# Altium footprint library robotShield.PcbLib: 19 footprints (part 1 of 2)
Each footprint in its own frame and in the unit in brackets; x right, y up, seen from the top. Pads: shape width x height; smd on the part's side, far side on the other; paste and mask are expansions set on the pad; w line width, h text height; cw(c..) or ccw(c..) is an arc to the next point about the centre after c.
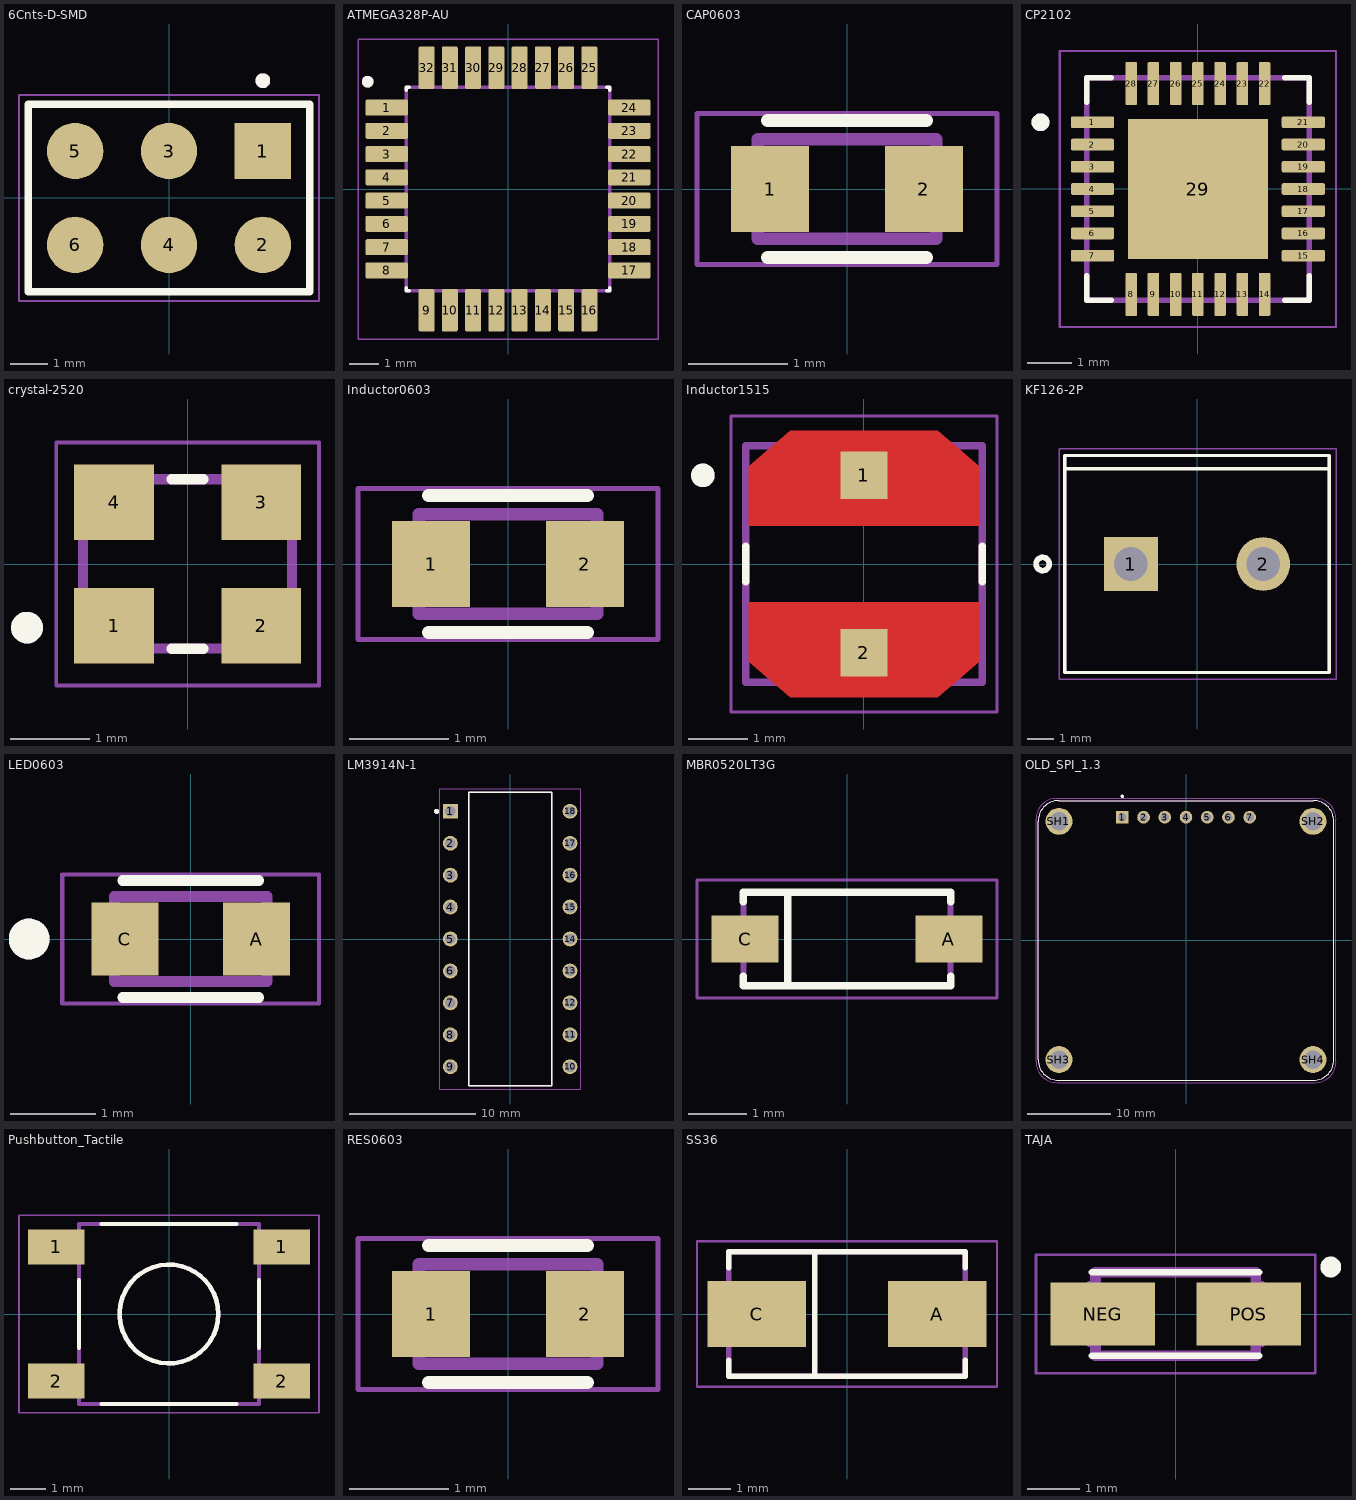
[diagram p0: the footprints below, top view; thin cyan lines are the x and y axes]

## 6Cnts-D-SMD [mil] "6Cnts-D-SMD"
pads (6):
  rect 60x60 smd: 1(100,50)
  round 60 smd: 2(100,-50) 3(0,50) 4(0,-50) 5(-100,50) 6(-100,-50)
Top Overlay:
  circle w7.87: c100,125 r3.94
  lines w7.87: -150,-100 150,-100 150,100 -150,100 -150,-100
Mechanical 13:
  circle w7.87: c100,125 r3.94
  lines w3.94: -150,-100 -150,100 150,100 150,-100 -150,-100
Mechanical 15:
  lines w1.97: -159.84,-109.84 -159.84,109.84 159.84,109.84 159.84,-109.84 -159.84,-109.84
3D body "6Cnts-D.step": height 416.22, standoff 1.26, extent -150,-98.43 150,98.43

## ATMEGA328P-AU [mm] "QFP80P900X900X120-32N"
height 1.2
pads (32):
  rrect25% 1.47x0.55 smd: 1(-4.17,2.8) 2(-4.17,2) 3(-4.17,1.2) 4(-4.17,0.4) 5(-4.17,-0.4) 6(-4.17,-1.2) 7(-4.17,-2) 8(-4.17,-2.8) 17(4.17,-2.8) 18(4.17,-2) 19(4.17,-1.2) 20(4.17,-0.4) 21(4.17,0.4) 22(4.17,1.2) 23(4.17,2) 24(4.17,2.8)
  rrect25% 0.55x1.47 smd: 9(-2.8,-4.17) 10(-2,-4.17) 11(-1.2,-4.17) 12(-0.4,-4.17) 13(0.4,-4.17) 14(1.2,-4.17) 15(2,-4.17) 16(2.8,-4.17) 25(2.8,4.17) 26(2,4.17) 27(1.2,4.17) 28(0.4,4.17) 29(-0.4,4.17) 30(-1.2,4.17) 31(-2,4.17) 32(-2.8,4.17)
Top Overlay:
  circle w0.2: c-4.824,3.689 r0.1
  lines w0.127: -3.5,-3.395 -3.5,-3.5 -3.395,-3.5 ; -3.5,3.395 -3.5,3.5 -3.395,3.5 ; 3.395,-3.5 3.5,-3.5 3.5,-3.395 ; 3.395,3.5 3.5,3.5 3.5,3.395
Mechanical 13:
  circle w0.2: c-4.824,3.689 r0.1
  lines w0.127: -3.5,-3.5 3.5,-3.5 3.5,3.5 -3.5,3.5 -3.5,-3.5
Mechanical 15:
  lines w0.05: -5.155,-5.155 5.155,-5.155 5.155,5.155 -5.155,5.155 -5.155,-5.155
3D body "step_temp.STEP": height 1.2, standoff 0, extent -4.5,-4.5 4.5,4.5

## CAP0603 [mil] "CAPC1608X50N"
pads (2):
  rect 31x34 smd: 1(-30.5,0) 2(30.5,0)
Top Overlay:
  lines w5: -31.5,-27.17 31.5,-27.17 ; -31.5,27.17 31.5,27.17
Mechanical 13:
  lines w5: -35.43,-19.69 35.43,-19.69 35.43,19.68 -35.43,19.68 -35.43,-19.69
Mechanical 15:
  lines w1.97: -59.45,-29.92 59.45,-29.92 59.45,29.92 -59.45,29.92 -59.45,-29.92
3D body "CAP0603.STEP": height 32.94, standoff 1.06, extent -31.5,-17.5 31.5,17.93

## CP2102 [mm] "QFN50P500X500X100-29N"
pads (29):
  rrect25% 0.97x0.26 smd: 1(-2.37,1.5) 2(-2.37,1) 3(-2.37,0.5) 4(-2.37,0) 5(-2.37,-0.5) 6(-2.37,-1) 7(-2.37,-1.5) 15(2.37,-1.5) 16(2.37,-1) 17(2.37,-0.5) 18(2.37,0) 19(2.37,0.5) 20(2.37,1) 21(2.37,1.5)
  rrect25% 0.26x0.97 smd: 8(-1.5,-2.37) 9(-1,-2.37) 10(-0.5,-2.37) 11(0,-2.37) 12(0.5,-2.37) 13(1,-2.37) 14(1.5,-2.37) 22(1.5,2.37) 23(1,2.37) 24(0.5,2.37) 25(0,2.37) 26(-0.5,2.37) 27(-1,2.37) 28(-1.5,2.37)
  rect 3.15x3.15 smd paste-0.575: 29(0,0)
Top Overlay:
  circle w0.2: c-3.54,1.5 r0.1
  lines w0.127: -2.5,-1.95 -2.5,-2.5 -1.95,-2.5 ; -2.5,1.95 -2.5,2.5 -1.95,2.5 ; 1.95,-2.5 2.5,-2.5 2.5,-1.95 ; 1.95,2.5 2.5,2.5 2.5,1.95
Mechanical 13:
  circle w0.2: c-3.54,1.5 r0.1
  lines w0.127: -2.5,-2.5 2.5,-2.5 2.5,2.5 -2.5,2.5 -2.5,-2.5
Mechanical 15:
  lines w0.05: -3.105,-3.105 3.105,-3.105 3.105,3.105 -3.105,3.105 -3.105,-3.105
3D body "CP2102.STEP": height 1, standoff 0, extent -2.5,-2.5 2.5,2.5

## crystal-2520 [mm] "crystal-2520"
pads (4):
  rect 1x0.95 smd: 1(-0.925,-0.775) 2(0.925,-0.775) 3(0.925,0.775) 4(-0.925,0.775)
Top Overlay:
  circle w0.2: c-2.019,-0.8 r0.1
  lines w0.127: -0.2,-1.065 0.2,-1.065 ; -0.2,1.065 0.2,1.065
Mechanical 13:
  circle w0.2: c-2.019,-0.8 r0.1
  lines w0.127: -1.312,-1.063 1.312,-1.063 1.312,1.065 -1.312,1.065 -1.312,-1.063
Mechanical 15:
  lines w0.05: -1.651,-1.524 1.651,-1.524 1.651,1.524 -1.651,1.524 -1.651,-1.524
3D body "QFN_2520_4pins.STEP": height 0.8, standoff 0, extent -1.251,-1 1.251,1

## Inductor0603 [mil] "InductorC1608X50N"
pads (2):
  rect 31x34 smd: 1(-30.5,0) 2(30.5,0)
Top Overlay:
  lines w5: -31.5,-27.17 31.5,-27.17 ; -31.5,27.17 31.5,27.17
Mechanical 13:
  lines w5: -35.43,-19.68 -35.43,19.69 35.43,19.69 35.43,-19.68 -35.43,-19.68
Mechanical 15:
  lines w1.97: -59.45,-29.92 -59.45,29.92 59.45,29.92 59.45,-29.92 -59.45,-29.92
3D body "Inductor0603.STEP": height 32.75, standoff 1.25, extent -31.5,-18.5 31.5,18.9

## Inductor1515 [mm] "SMD Inductor 4.7uH 1.57A 4mm x 4mm x 2.8mm"
height 2
pads (2):
  rect 0.8x0.8 smd paste-1 mask+0: 1(0,1.5) 2(0,-1.5)
Top Layer:
  region: 1.95,1.65 1.95,0.65 -1.95,0.65 -1.95,1.65 -1.25,2.25 1.25,2.25
  region: 1.95,-1.65 1.25,-2.25 -1.25,-2.25 -1.95,-1.65 -1.95,-0.65 1.95,-0.65
Top Overlay:
  circle w0.2: c-2.725,1.5 r0.1
  lines w0.127: -2,-0.3 -2,0.3 ; 2,-0.3 2,0.3
Top Paste:
  region: 1.95,1.65 1.95,0.65 -1.95,0.65 -1.95,1.65 -1.25,2.25 1.25,2.25
  region: 1.95,-1.65 1.25,-2.25 -1.25,-2.25 -1.95,-1.65 -1.95,-0.65 1.95,-0.65
Top Solder:
  region: 2.05,1.7 2.05,0.55 -2.05,0.55 -2.05,1.7 -1.3,2.35 1.3,2.35
  region: 2.05,-1.7 1.3,-2.35 -1.3,-2.35 -2.05,-1.7 -2.05,-0.55 2.05,-0.55
Mechanical 13:
  circle w0.2: c-2.725,1.5 r0.1
  lines w0.127: -2,-2 -2,2 2,2 2,-2 -2,-2
Mechanical 15:
  lines w0.05: -2.25,-2.5 -2.25,2.5 2.25,2.5 2.25,-2.5 -2.25,-2.5
3D body "step_temp.STEP": height 2.8, standoff 0, extent -2,-2 2,2

## KF126-2P [mil] "KF126-2P"
pads (2):
  rect 80x80 hole 50: 1(-98.43,0)
  round 80 hole 50: 2(98.43,0)
Top Overlay:
  circle w8: c-229.8,0 r9.84
  lines w5: -196.49,141.83 196.7,141.83 ; -196.85,-161.42 -196.85,161.42 196.85,161.42 196.85,-161.42 -196.85,-161.42
Mechanical 13:
  circle w8: c-229.8,0 r9.84
  lines w5: -196.85,-161.42 -196.85,161.42 196.85,161.42 196.85,-161.42 -196.85,-161.42
Mechanical 15:
  lines w1.97: -205,-171.26 206.69,-171.26 206.69,171.26 -205,171.26 -205,-171.26
3D body "KF126-2P.STEP": height 393.7, standoff -137.8, extent -220.47,-161.42 196.85,161.42

## LED0603 [mil] "LEDC1608X65N"
pads (2):
  rect 31x34 smd: A(30.5,0) C(-30.5,0)
Top Overlay:
  circle w9.45: c-74.8,0 r4.72
  lines w5: -31.5,-27.17 31.5,-27.17 ; -31.5,27.17 31.5,27.17
Mechanical 13:
  circle w9.45: c-74.8,0 r4.72
  lines w5: -35.43,-19.69 -35.43,19.68 35.43,19.68 35.43,-19.69 -35.43,-19.69
Mechanical 15:
  lines w1.97: -59.45,-29.92 -59.45,29.92 59.45,29.92 59.45,-29.92 -59.45,-29.92
3D body "LED0603_RED.step": height 35.43, standoff 0, extent -33.46,-17.72 33.46,17.72

## LM3914N-1 [mm] "DIP952W45P254L2336H533Q18"
height 5.334
pads (18):
  rect 1.18x1.18 / inner round 1.18 / far side rect 1.18x1.18 hole 0.83: 1(-4.763,10.16)
  round 1.18 hole 0.83: 2(-4.763,7.62) 3(-4.763,5.08) 4(-4.763,2.54) 5(-4.763,0) 6(-4.763,-2.54) 7(-4.763,-5.08) 8(-4.763,-7.62) 9(-4.763,-10.16) 10(4.763,-10.16) 11(4.763,-7.62) 12(4.763,-5.08) 13(4.763,-2.54) 14(4.763,0) 15(4.763,2.54) 16(4.763,5.08) 17(4.763,7.62) 18(4.763,10.16)
Top Overlay:
  circle w0.2: c-5.853,10.16 r0.1
  lines w0.127: -3.302,-11.684 3.302,-11.684 3.302,11.684 -3.302,11.684 -3.302,-11.684
Mechanical 13:
  circle w0.2: c-5.853,10.16 r0.1
  lines w0.127: -3.302,-11.684 -3.302,11.684 3.302,11.684 3.302,-11.684 -3.302,-11.684
Mechanical 15:
  lines w0.05: -5.602,-11.934 -5.602,11.934 5.602,11.934 5.602,-11.934 -5.602,-11.934
3D body "step_temp.STEP": height 5.33, standoff -3.43, extent -4.888,-11.43 4.888,11.43

## MBR0520LT3G [mm] "SOD3716X135N"
pads (2):
  rect 1.15x0.8 smd: A(1.75,0) C(-1.75,0)
Top Overlay:
  lines w0.127: -1.778,-0.635 -1.778,-0.8 1.778,-0.8 1.778,-0.635 ; -1.778,0.635 -1.778,0.8 1.778,0.8 1.778,0.635 ; -1.016,-0.762 -1.016,0.762
Mechanical 13:
  lines w0.1: -1.778,-0.8 -1.778,0.8 1.778,0.8 1.778,-0.8 -1.778,-0.8
Mechanical 15:
  lines w0.05: -2.575,-1.016 2.575,-1.016 2.575,1.016 -2.575,1.016 -2.575,-1.016
3D body "step_temp.STEP": height 1.35, standoff 0, extent -1.84,-0.8 1.84,0.8

## OLD_SPI_1.3 [mm] "LCD_AOM12864A0-1.3BW-ANO"
height 5
pads (11):
  rect 1.508x1.508 / inner round 1.508 / far side rect 1.508x1.508 hole 1 mask+0.102: 1(-7.62,14.75)
  round 1.508 hole 1 mask+0.102: 2(-5.08,14.75) 3(-2.54,14.75) 4(0,14.75) 5(2.54,14.75) 6(5.08,14.75) 7(7.62,14.75)
  round 3.216 hole 2.2 mask+0.102: SH1(-15.2,14.25) SH2(15.2,14.25) SH3(-15.2,-14.25) SH4(15.2,-14.25)
Top Overlay:
  circle w0.2: c-7.62,17.254 r0.1
  lines w0.127: -17.7,-14.25 ccw(c-15.2,-14.25) -15.2,-16.75 15.2,-16.75 ccw(c15.2,-14.25) 17.7,-14.25 17.7,14.25 ccw(c15.2,14.25) 15.2,16.75 -15.2,16.75 ccw(c-15.2,14.25) -17.7,14.25 -17.7,-14.25
Mechanical 13:
  circle w0.2: c-7.62,17.254 r0.1
  lines w0.127: -17.7,-14.25 ccw(c-15.2,-14.25) -15.2,-16.75 15.2,-16.75 ccw(c15.2,-14.25) 17.7,-14.25 17.7,14.25 ccw(c15.2,14.25) 15.2,16.75 -15.2,16.75 ccw(c-15.2,14.25) -17.7,14.25 -17.7,-14.25
Mechanical 15:
  lines w0.05: -17.95,-14.5 ccw(c-15.45,-14.5) -15.45,-17 15.45,-17 ccw(c15.45,-14.5) 17.95,-14.5 17.95,14.5 ccw(c15.45,14.5) 15.45,17 -15.45,17 ccw(c-15.45,14.5) -17.95,14.5 -17.95,-14.5
3D body "step_temp.STEP": height 5, standoff 0, extent -17.7,-16.75 17.7,16.75

## Pushbutton_Tactile [mm] "PTS525SMG15SMTR2LFS"
pads (4):
  rect 1.6x1 smd: 1(-3.2,1.9) 1(3.2,1.9) 2(-3.2,-1.9) 2(3.2,-1.9)
Top Overlay:
  circle w0.127: c0,0 r1.4
  lines w0.127: -2.55,-0.956 -2.55,0.956 ; -1.913,-2.55 1.913,-2.55 ; -1.913,2.55 1.913,2.55 ; 2.55,-0.956 2.55,0.956
Mechanical 13:
  circle w0.127: c0,0 r1.4
  lines w0.127: -2.55,-2.55 2.55,-2.55 2.55,2.55 -2.55,2.55 -2.55,-2.55
Mechanical 15:
  lines w0.05: -4.25,-2.8 -4.25,2.8 4.25,2.8 4.25,-2.8 -4.25,-2.8
3D body "step_temp.STEP": height 1.6, standoff 0, extent -3.2,-2.55 3.2,2.55

## RES0603 [mil] "RESC1608X50N"
pads (2):
  rect 31x34 smd: 1(-30.5,0) 2(30.5,0)
Top Overlay:
  lines w5: -31.5,-27.17 31.5,-27.17 ; -31.5,27.17 31.5,27.17
Mechanical 13:
  lines w5: -35.43,-19.69 -35.43,19.68 35.43,19.68 35.43,-19.69 -35.43,-19.69
Mechanical 15:
  lines w1.97: -59.45,-29.92 -59.45,29.92 59.45,29.92 59.45,-29.92 -59.45,-29.92
3D body "RES0603.stp": height 17.72, standoff 0, extent -31.5,-15.75 31.5,15.76

## SS36 [mm] "DO-214AC (SMA)"
height 2.7
pads (2):
  rect 2.33x1.56 smd: A(2.14,0) C(-2.14,0)
Top Overlay:
  lines w0.127: -2.8,-1.1 -2.8,-1.475 2.8,-1.475 2.8,-1.1 ; -2.8,1.1 -2.8,1.475 2.8,1.475 2.8,1.1 ; -0.762,-1.455 -0.762,1.462
Mechanical 13:
  lines w0.127: -2.8,-1.475 2.8,-1.475 2.8,1.475 -2.8,1.475 -2.8,-1.475
Mechanical 15:
  lines w0.05: -3.555,-1.725 -3.555,1.725 3.555,1.725 3.555,-1.725 -3.555,-1.725
3D body "step_temp.STEP": height 2.17, standoff 0, extent -2.536,-1.342 2.514,1.358

## TAJA [mm]
pads (2):
  rect 2x1.2 smd: NEG(-1.4,0) POS(1.4,0)
Top Overlay:
  circle w0.2: c2.969,0.9 r0.1
  lines w0.127: -1.6,-0.8 1.6,-0.8 ; -1.6,0.8 1.6,0.8
Mechanical 13:
  lines w0.152: -1.651,-0.559 -1.651,0.559 -1.651,-0.559 ; 1.651,-0.559 1.651,0.559 1.651,-0.559
  lines w0.203: -1.535,-0.798 1.535,-0.798 ; -1.535,-0.798 -1.535,0.798 ; -1.535,-0.798 1.535,-0.798 ; -1.535,-0.798 -1.535,0.798 ; -1.535,0.798 1.535,0.798 ; -1.535,0.798 1.535,0.798 ; 1.535,-0.798 1.535,0.798 ; 1.535,-0.798 1.535,0.798
Mechanical 15:
  lines w0.051: -2.673,-1.133 -2.673,1.133 2.673,1.133 2.673,-1.133 -2.673,-1.133
3D body "TAJA.step": height 1.8, standoff -0.04, extent -2.39,-0.902 2.405,0.902